# EAGLE library part B0081001 (library con-amphenol)
AMPHENOL CONNECTOR
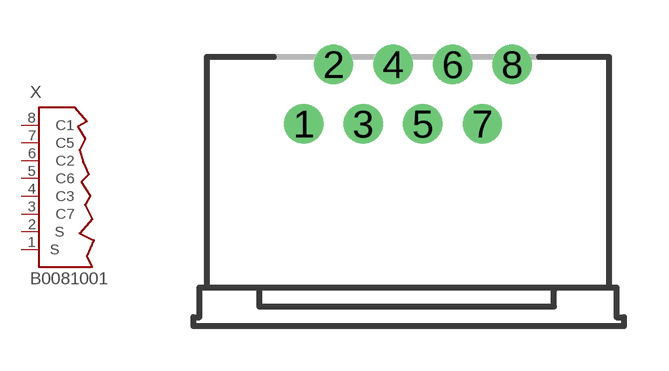
[diagram p4: symbol with the pads of B0081001; footprint B0081001]

Designator prefix X

## B0081001  [B0081001]
1  S1  pas
2  S2  pas
3  C7  pas
4  C3  pas
5  C6  pas
6  C2  pas
7  C5  pas
8  C1  pas

## Footprint B0081001 (pad centres in mm)
AMPHENOL CONNECTOR
drill 0.813 round: 1 -3.5,-1; 2 -2.5,1; 3 -1.5,-1; 4 -0.5,1; 5 0.5,-1; 6 1.5,1; 7 2.5,-1; 8 3.5,1